# Altium footprint library HT3.96.PcbLib: 56 footprints (part 3 of 4)
Each footprint in its own frame and in the unit in brackets; x right, y up, seen from the top. Pads: shape width x height; smd on the part's side, far side on the other; paste and mask are expansions set on the pad; w line width, h text height; cw(c..) or ccw(c..) is an arc to the next point about the centre after c.
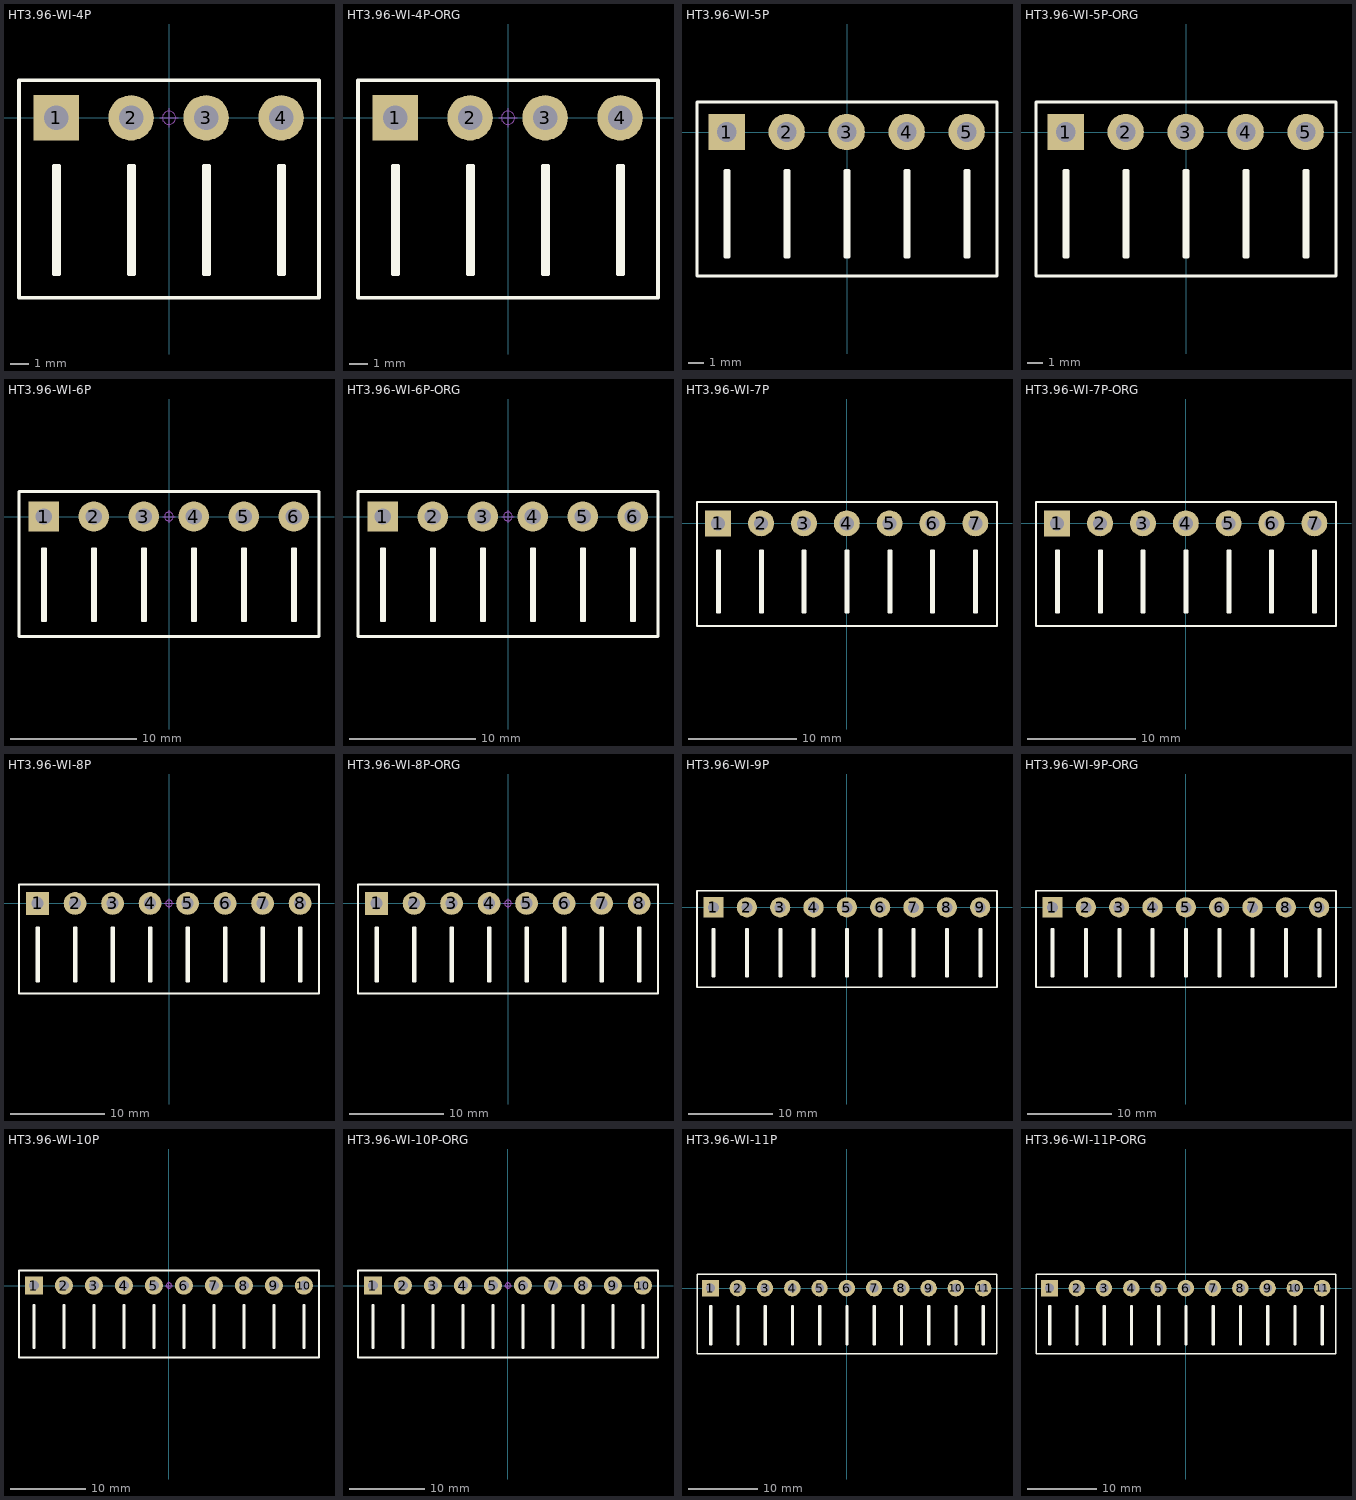
[diagram p2: the footprints below, top view; thin cyan lines are the x and y axes]

## HT3.96-WI-4P [mm] "HT3.96卧插端子"
pads (4):
  rect 2.4x2.4 hole 1.3: 1(-5.96,0)
  round 2.4 hole 1.3: 2(-2,0) 3(1.96,0) 4(5.92,0)
Top Overlay:
  lines w0.203: -5.94,-8.255 -5.94,-2.54 ; -1.98,-8.255 -1.98,-2.54 ; 1.98,-8.255 1.98,-2.54 ; 5.94,-8.255 5.94,-2.54 ; -7.92,-9.5 -3.96,-9.5 0,-9.5 3.96,-9.5 7.92,-9.5 7.92,1.98 3.96,1.98 0,1.98 -3.96,1.98 -7.92,1.98 -7.92,-9.5 ; -6.067,-8.255 -5.813,-8.255 -5.813,-2.54 -6.067,-2.54 -6.067,-8.255 ; -2.107,-8.255 -2.107,-2.54 -1.853,-2.54 -1.853,-8.255 -2.107,-8.255 ; 1.853,-8.255 1.853,-2.54 2.107,-2.54 2.107,-8.255 1.853,-8.255 ; 5.813,-8.255 5.813,-2.54 6.067,-2.54 6.067,-8.255 5.813,-8.255
Mechanical 15:
  circle w0.05: c0,0 r0.35
  lines w0.05: -0.5,0 0.5,0 ; 0,-0.5 0,0.5
3D body "HT3.96-WI-1P.STEP": height 7.45, standoff -3.2, extent 3.94,-9.5 7.94,0.5
3D body "HT3.96-WI-1P.STEP": height 7.45, standoff -3.2, extent -0.02,-9.5 3.98,0.5
3D body "HT3.96-WI-1P.STEP": height 7.45, standoff -3.2, extent -3.98,-9.5 0.02,0.5
3D body "HT3.96-WI-1P.STEP": height 7.45, standoff -3.2, extent -7.94,-9.5 -3.94,0.5

## HT3.96-WI-4P-ORG [mm] "HT3.96卧插端子"
pads (4):
  rect 2.4x2.4 hole 1.3: 1(-5.96,0)
  round 2.4 hole 1.3: 2(-2,0) 3(1.96,0) 4(5.92,0)
Top Overlay:
  lines w0.203: -5.94,-8.255 -5.94,-2.54 ; -1.98,-8.255 -1.98,-2.54 ; 1.98,-8.255 1.98,-2.54 ; 5.94,-8.255 5.94,-2.54 ; -7.92,-9.5 -7.92,1.98 -3.96,1.98 0,1.98 3.96,1.98 7.92,1.98 7.92,-9.5 3.96,-9.5 0,-9.5 -3.96,-9.5 -7.92,-9.5 ; -6.067,-8.255 -6.067,-2.54 -5.813,-2.54 -5.813,-8.255 -6.067,-8.255 ; -2.107,-8.255 -1.853,-8.255 -1.853,-2.54 -2.107,-2.54 -2.107,-8.255 ; 1.853,-8.255 2.107,-8.255 2.107,-2.54 1.853,-2.54 1.853,-8.255 ; 5.813,-8.255 6.067,-8.255 6.067,-2.54 5.813,-2.54 5.813,-8.255
Mechanical 15:
  circle w0.05: c0,0 r0.35
  lines w0.05: -0.5,0 0.5,0 ; 0,-0.5 0,0.5
3D body "HT3.96-WI-1P-ORG.STEP": height 7.45, standoff -3.2, extent -7.96,-9.5 -3.96,0.5
3D body "HT3.96-WI-1P-ORG.STEP": height 7.45, standoff -3.2, extent -4,-9.5 0,0.5
3D body "HT3.96-WI-1P-ORG.STEP": height 7.45, standoff -3.2, extent -0.04,-9.5 3.96,0.5
3D body "HT3.96-WI-1P-ORG.STEP": height 7.45, standoff -3.2, extent 3.92,-9.5 7.92,0.5

## HT3.96-WI-5P [mm] "HT3.96卧插端子"
pads (5):
  rect 2.4x2.4 hole 1.3: 1(-7.94,0)
  round 2.4 hole 1.3: 2(-3.98,0) 3(-0.02,0) 4(3.94,0) 5(7.9,0)
Top Overlay:
  lines w0.203: -7.92,-8.255 -7.92,-2.54 ; -3.96,-8.255 -3.96,-2.54 ; 0,-8.255 0,-2.54 ; 3.96,-8.255 3.96,-2.54 ; 7.92,-8.255 7.92,-2.54 ; -9.9,-9.5 -5.94,-9.5 -1.98,-9.5 1.98,-9.5 5.94,-9.5 9.9,-9.5 9.9,1.98 5.94,1.98 1.98,1.98 -1.98,1.98 -5.94,1.98 -9.9,1.98 -9.9,-9.5 ; -8.047,-8.255 -7.793,-8.255 -7.793,-2.54 -8.047,-2.54 -8.047,-8.255 ; -4.087,-8.255 -4.087,-2.54 -3.833,-2.54 -3.833,-8.255 -4.087,-8.255 ; -0.127,-8.255 -0.127,-2.54 0.127,-2.54 0.127,-8.255 -0.127,-8.255 ; 3.833,-8.255 3.833,-2.54 4.087,-2.54 4.087,-8.255 3.833,-8.255 ; 7.793,-8.255 7.793,-2.54 8.047,-2.54 8.047,-8.255 7.793,-8.255
Mechanical 15:
  circle w0.05: c0,0 r0.35
  lines w0.05: -0.5,0 0.5,0 ; 0,-0.5 0,0.5
3D body "HT3.96-WI-1P.STEP": height 7.45, standoff -3.2, extent 5.92,-9.5 9.92,0.5
3D body "HT3.96-WI-1P.STEP": height 7.45, standoff -3.2, extent 1.96,-9.5 5.96,0.5
3D body "HT3.96-WI-1P.STEP": height 7.45, standoff -3.2, extent -2,-9.5 2,0.5
3D body "HT3.96-WI-1P.STEP": height 7.45, standoff -3.2, extent -5.96,-9.5 -1.96,0.5
3D body "HT3.96-WI-1P.STEP": height 7.45, standoff -3.2, extent -9.92,-9.5 -5.92,0.5

## HT3.96-WI-5P-ORG [mm] "HT3.96卧插端子"
pads (5):
  rect 2.4x2.4 hole 1.3: 1(-7.94,0)
  round 2.4 hole 1.3: 2(-3.98,0) 3(-0.02,0) 4(3.94,0) 5(7.9,0)
Top Overlay:
  lines w0.203: -7.92,-8.255 -7.92,-2.54 ; -3.96,-8.255 -3.96,-2.54 ; 0,-8.255 0,-2.54 ; 3.96,-8.255 3.96,-2.54 ; 7.92,-8.255 7.92,-2.54 ; -9.9,-9.5 -9.9,1.98 -5.94,1.98 -1.98,1.98 1.98,1.98 5.94,1.98 9.9,1.98 9.9,-9.5 5.94,-9.5 1.98,-9.5 -1.98,-9.5 -5.94,-9.5 -9.9,-9.5 ; -8.047,-8.255 -8.047,-2.54 -7.793,-2.54 -7.793,-8.255 -8.047,-8.255 ; -4.087,-8.255 -3.833,-8.255 -3.833,-2.54 -4.087,-2.54 -4.087,-8.255 ; -0.127,-8.255 0.127,-8.255 0.127,-2.54 -0.127,-2.54 -0.127,-8.255 ; 3.833,-8.255 4.087,-8.255 4.087,-2.54 3.833,-2.54 3.833,-8.255 ; 7.793,-8.255 8.047,-8.255 8.047,-2.54 7.793,-2.54 7.793,-8.255
Mechanical 15:
  circle w0.05: c0,0 r0.35
  lines w0.05: -0.5,0 0.5,0 ; 0,-0.5 0,0.5
3D body "HT3.96-WI-1P-ORG.STEP": height 7.45, standoff -3.2, extent -9.96,-9.5 -5.96,0.5
3D body "HT3.96-WI-1P-ORG.STEP": height 7.45, standoff -3.2, extent -6,-9.5 -2,0.5
3D body "HT3.96-WI-1P-ORG.STEP": height 7.45, standoff -3.2, extent -2.04,-9.5 1.96,0.5
3D body "HT3.96-WI-1P-ORG.STEP": height 7.45, standoff -3.2, extent 1.92,-9.5 5.92,0.5
3D body "HT3.96-WI-1P-ORG.STEP": height 7.45, standoff -3.2, extent 5.88,-9.5 9.88,0.5

## HT3.96-WI-6P [mm] "HT3.96卧插端子"
pads (6):
  rect 2.4x2.4 hole 1.3: 1(-9.92,0)
  round 2.4 hole 1.3: 2(-5.96,0) 3(-2,0) 4(1.96,0) 5(5.92,0) 6(9.88,0)
Top Overlay:
  lines w0.203: -9.9,-8.255 -9.9,-2.54 ; -5.94,-8.255 -5.94,-2.54 ; -1.98,-8.255 -1.98,-2.54 ; 1.98,-8.255 1.98,-2.54 ; 5.94,-8.255 5.94,-2.54 ; 9.9,-8.255 9.9,-2.54 ; -11.88,-9.5 -7.92,-9.5 -3.96,-9.5 0,-9.5 3.96,-9.5 7.92,-9.5 11.88,-9.5 11.88,1.98 7.92,1.98 3.96,1.98 0,1.98 -3.96,1.98 -7.92,1.98 -11.88,1.98 -11.88,-9.5 ; -10.027,-8.255 -9.773,-8.255 -9.773,-2.54 -10.027,-2.54 -10.027,-8.255 ; -6.067,-8.255 -6.067,-2.54 -5.813,-2.54 -5.813,-8.255 -6.067,-8.255 ; -2.107,-8.255 -2.107,-2.54 -1.853,-2.54 -1.853,-8.255 -2.107,-8.255 ; 1.853,-8.255 1.853,-2.54 2.107,-2.54 2.107,-8.255 1.853,-8.255 ; 5.813,-8.255 5.813,-2.54 6.067,-2.54 6.067,-8.255 5.813,-8.255 ; 9.773,-8.255 9.773,-2.54 10.027,-2.54 10.027,-8.255 9.773,-8.255
Mechanical 15:
  circle w0.05: c0,0 r0.35
  lines w0.05: -0.5,0 0.5,0 ; 0,-0.5 0,0.5
3D body "HT3.96-WI-1P.STEP": height 7.45, standoff -3.2, extent 7.9,-9.5 11.9,0.5
3D body "HT3.96-WI-1P.STEP": height 7.45, standoff -3.2, extent 3.94,-9.5 7.94,0.5
3D body "HT3.96-WI-1P.STEP": height 7.45, standoff -3.2, extent -0.02,-9.5 3.98,0.5
3D body "HT3.96-WI-1P.STEP": height 7.45, standoff -3.2, extent -3.98,-9.5 0.02,0.5
3D body "HT3.96-WI-1P.STEP": height 7.45, standoff -3.2, extent -7.94,-9.5 -3.94,0.5
3D body "HT3.96-WI-1P.STEP": height 7.45, standoff -3.2, extent -11.9,-9.5 -7.9,0.5

## HT3.96-WI-6P-ORG [mm] "HT3.96卧插端子"
pads (6):
  rect 2.4x2.4 hole 1.3: 1(-9.92,0)
  round 2.4 hole 1.3: 2(-5.96,0) 3(-2,0) 4(1.96,0) 5(5.92,0) 6(9.88,0)
Top Overlay:
  lines w0.203: -9.9,-8.255 -9.9,-2.54 ; -5.94,-8.255 -5.94,-2.54 ; -1.98,-8.255 -1.98,-2.54 ; 1.98,-8.255 1.98,-2.54 ; 5.94,-8.255 5.94,-2.54 ; 9.9,-8.255 9.9,-2.54 ; -11.88,-9.5 -11.88,1.98 -7.92,1.98 -3.96,1.98 0,1.98 3.96,1.98 7.92,1.98 11.88,1.98 11.88,-9.5 7.92,-9.5 3.96,-9.5 0,-9.5 -3.96,-9.5 -7.92,-9.5 -11.88,-9.5 ; -10.027,-8.255 -10.027,-2.54 -9.773,-2.54 -9.773,-8.255 -10.027,-8.255 ; -6.067,-8.255 -5.813,-8.255 -5.813,-2.54 -6.067,-2.54 -6.067,-8.255 ; -2.107,-8.255 -1.853,-8.255 -1.853,-2.54 -2.107,-2.54 -2.107,-8.255 ; 1.853,-8.255 2.107,-8.255 2.107,-2.54 1.853,-2.54 1.853,-8.255 ; 5.813,-8.255 6.067,-8.255 6.067,-2.54 5.813,-2.54 5.813,-8.255 ; 9.773,-8.255 10.027,-8.255 10.027,-2.54 9.773,-2.54 9.773,-8.255
Mechanical 15:
  circle w0.05: c0,0 r0.35
  lines w0.05: -0.5,0 0.5,0 ; 0,-0.5 0,0.5
3D body "HT3.96-WI-1P-ORG.STEP": height 7.45, standoff -3.2, extent -11.92,-9.5 -7.92,0.5
3D body "HT3.96-WI-1P-ORG.STEP": height 7.45, standoff -3.2, extent -7.96,-9.5 -3.96,0.5
3D body "HT3.96-WI-1P-ORG.STEP": height 7.45, standoff -3.2, extent -4,-9.5 0,0.5
3D body "HT3.96-WI-1P-ORG.STEP": height 7.45, standoff -3.2, extent -0.04,-9.5 3.96,0.5
3D body "HT3.96-WI-1P-ORG.STEP": height 7.45, standoff -3.2, extent 3.92,-9.5 7.92,0.5
3D body "HT3.96-WI-1P-ORG.STEP": height 7.45, standoff -3.2, extent 7.88,-9.5 11.88,0.5

## HT3.96-WI-7P [mm] "HT3.96卧插端子"
pads (7):
  rect 2.4x2.4 hole 1.3: 1(-11.88,0)
  round 2.4 hole 1.3: 2(-7.92,0) 3(-3.96,0) 4(0,0) 5(3.96,0) 6(7.92,0) 7(11.88,0)
Top Overlay:
  lines w0.203: -11.86,-8.255 -11.86,-2.54 ; -7.9,-8.255 -7.9,-2.54 ; -3.94,-8.255 -3.94,-2.54 ; 0.02,-8.255 0.02,-2.54 ; 3.98,-8.255 3.98,-2.54 ; 7.94,-8.255 7.94,-2.54 ; 11.9,-8.255 11.9,-2.54 ; 13.88,-9.5 9.92,-9.5 5.96,-9.5 2,-9.5 -1.96,-9.5 -5.92,-9.5 -9.88,-9.5 -13.84,-9.5 -13.84,1.98 -9.88,1.98 -5.92,1.98 -1.96,1.98 2,1.98 5.96,1.98 9.92,1.98 13.88,1.98 13.88,-9.5 ; 13.88,-9.5 13.88,-9.5 ; -11.987,-8.255 -11.733,-8.255 -11.733,-2.54 -11.987,-2.54 -11.987,-8.255 ; -8.027,-8.255 -8.027,-2.54 -7.773,-2.54 -7.773,-8.255 -8.027,-8.255 ; -4.067,-8.255 -4.067,-2.54 -3.813,-2.54 -3.813,-8.255 -4.067,-8.255 ; -0.107,-8.255 -0.107,-2.54 0.147,-2.54 0.147,-8.255 -0.107,-8.255 ; 3.853,-8.255 3.853,-2.54 4.107,-2.54 4.107,-8.255 3.853,-8.255 ; 7.813,-8.255 7.813,-2.54 8.067,-2.54 8.067,-8.255 7.813,-8.255 ; 11.773,-8.255 11.773,-2.54 12.027,-2.54 12.027,-8.255 11.773,-8.255
Mechanical 15:
  circle w0.05: c0,0 r0.35
  lines w0.05: -0.5,0 0.5,0 ; 0,-0.5 0,0.5
3D body "HT3.96-WI-1P.STEP": height 7.45, standoff -3.2, extent 9.9,-9.5 13.9,0.5
3D body "HT3.96-WI-1P.STEP": height 7.45, standoff -3.2, extent 5.94,-9.5 9.94,0.5
3D body "HT3.96-WI-1P.STEP": height 7.45, standoff -3.2, extent 1.98,-9.5 5.98,0.5
3D body "HT3.96-WI-1P.STEP": height 7.45, standoff -3.2, extent -1.98,-9.5 2.02,0.5
3D body "HT3.96-WI-1P.STEP": height 7.45, standoff -3.2, extent -5.94,-9.5 -1.94,0.5
3D body "HT3.96-WI-1P.STEP": height 7.45, standoff -3.2, extent -9.9,-9.5 -5.9,0.5
3D body "HT3.96-WI-1P.STEP": height 7.45, standoff -3.2, extent -13.86,-9.5 -9.86,0.5

## HT3.96-WI-7P-ORG [mm] "HT3.96卧插端子"
pads (7):
  rect 2.4x2.4 hole 1.3: 1(-11.88,0)
  round 2.4 hole 1.3: 2(-7.92,0) 3(-3.96,0) 4(0,0) 5(3.96,0) 6(7.92,0) 7(11.88,0)
Top Overlay:
  lines w0.203: -11.86,-8.255 -11.86,-2.54 ; -7.9,-8.255 -7.9,-2.54 ; -3.94,-8.255 -3.94,-2.54 ; 0.02,-8.255 0.02,-2.54 ; 3.98,-8.255 3.98,-2.54 ; 7.94,-8.255 7.94,-2.54 ; 11.9,-8.255 11.9,-2.54 ; 13.88,-9.5 13.88,-9.5 ; 13.88,-9.5 13.88,1.98 9.92,1.98 5.96,1.98 2,1.98 -1.96,1.98 -5.92,1.98 -9.88,1.98 -13.84,1.98 -13.84,-9.5 -9.88,-9.5 -5.92,-9.5 -1.96,-9.5 2,-9.5 5.96,-9.5 9.92,-9.5 13.88,-9.5 ; -11.987,-8.255 -11.987,-2.54 -11.733,-2.54 -11.733,-8.255 -11.987,-8.255 ; -8.027,-8.255 -7.773,-8.255 -7.773,-2.54 -8.027,-2.54 -8.027,-8.255 ; -4.067,-8.255 -3.813,-8.255 -3.813,-2.54 -4.067,-2.54 -4.067,-8.255 ; -0.107,-8.255 0.147,-8.255 0.147,-2.54 -0.107,-2.54 -0.107,-8.255 ; 3.853,-8.255 4.107,-8.255 4.107,-2.54 3.853,-2.54 3.853,-8.255 ; 7.813,-8.255 8.067,-8.255 8.067,-2.54 7.813,-2.54 7.813,-8.255 ; 11.773,-8.255 12.027,-8.255 12.027,-2.54 11.773,-2.54 11.773,-8.255
Mechanical 15:
  circle w0.05: c0,0 r0.35
  lines w0.05: -0.5,0 0.5,0 ; 0,-0.5 0,0.5
3D body "HT3.96-WI-1P-ORG.STEP": height 7.45, standoff -3.2, extent -13.9,-9.5 -9.9,0.5
3D body "HT3.96-WI-1P-ORG.STEP": height 7.45, standoff -3.2, extent -9.94,-9.5 -5.94,0.5
3D body "HT3.96-WI-1P-ORG.STEP": height 7.45, standoff -3.2, extent -5.98,-9.5 -1.98,0.5
3D body "HT3.96-WI-1P-ORG.STEP": height 7.45, standoff -3.2, extent -2.02,-9.5 1.98,0.5
3D body "HT3.96-WI-1P-ORG.STEP": height 7.45, standoff -3.2, extent 1.94,-9.5 5.94,0.5
3D body "HT3.96-WI-1P-ORG.STEP": height 7.45, standoff -3.2, extent 5.9,-9.5 9.9,0.5
3D body "HT3.96-WI-1P-ORG.STEP": height 7.45, standoff -3.2, extent 9.86,-9.5 13.86,0.5

## HT3.96-WI-8P [mm] "HT3.96卧插端子"
pads (8):
  rect 2.4x2.4 hole 1.3: 1(-13.88,0)
  round 2.4 hole 1.3: 2(-9.92,0) 3(-5.96,0) 4(-2,0) 5(1.96,0) 6(5.92,0) 7(9.88,0) 8(13.84,0)
Top Overlay:
  lines w0.203: -13.86,-8.255 -13.86,-2.54 ; -9.9,-8.255 -9.9,-2.54 ; -5.94,-8.255 -5.94,-2.54 ; -1.98,-8.255 -1.98,-2.54 ; 1.98,-8.255 1.98,-2.54 ; 5.94,-8.255 5.94,-2.54 ; 9.9,-8.255 9.9,-2.54 ; 13.86,-8.255 13.86,-2.54 ; -15.84,-9.5 -15.84,1.98 -11.88,1.98 -7.92,1.98 -3.96,1.98 0,1.98 3.96,1.98 7.92,1.98 11.88,1.98 15.84,1.98 15.84,-9.5 11.88,-9.5 7.92,-9.5 3.96,-9.5 0,-9.5 -3.96,-9.5 -7.92,-9.5 -11.88,-9.5 -15.84,-9.5 ; -13.987,-8.255 -13.987,-2.54 -13.733,-2.54 -13.733,-8.255 -13.987,-8.255 ; -10.027,-8.255 -9.773,-8.255 -9.773,-2.54 -10.027,-2.54 -10.027,-8.255 ; -6.067,-8.255 -5.813,-8.255 -5.813,-2.54 -6.067,-2.54 -6.067,-8.255 ; -2.107,-8.255 -1.853,-8.255 -1.853,-2.54 -2.107,-2.54 -2.107,-8.255 ; 1.853,-8.255 2.107,-8.255 2.107,-2.54 1.853,-2.54 1.853,-8.255 ; 5.813,-8.255 6.067,-8.255 6.067,-2.54 5.813,-2.54 5.813,-8.255 ; 9.773,-8.255 10.027,-8.255 10.027,-2.54 9.773,-2.54 9.773,-8.255 ; 13.733,-8.255 13.987,-8.255 13.987,-2.54 13.733,-2.54 13.733,-8.255
Mechanical 15:
  circle w0.05: c0,0 r0.35
  lines w0.05: -0.5,0 0.5,0 ; 0,-0.5 0,0.5
3D body "HT3.96-WI-1P.STEP": height 7.45, standoff -3.2, extent -15.86,-9.5 -11.86,0.5
3D body "HT3.96-WI-1P.STEP": height 7.45, standoff -3.2, extent -11.9,-9.5 -7.9,0.5
3D body "HT3.96-WI-1P.STEP": height 7.45, standoff -3.2, extent -7.94,-9.5 -3.94,0.5
3D body "HT3.96-WI-1P.STEP": height 7.45, standoff -3.2, extent -3.98,-9.5 0.02,0.5
3D body "HT3.96-WI-1P.STEP": height 7.45, standoff -3.2, extent -0.02,-9.5 3.98,0.5
3D body "HT3.96-WI-1P.STEP": height 7.45, standoff -3.2, extent 3.94,-9.5 7.94,0.5
3D body "HT3.96-WI-1P.STEP": height 7.45, standoff -3.2, extent 7.9,-9.5 11.9,0.5
3D body "HT3.96-WI-1P.STEP": height 7.45, standoff -3.2, extent 11.86,-9.5 15.86,0.5

## HT3.96-WI-8P-ORG [mm] "HT3.96卧插端子"
pads (8):
  rect 2.4x2.4 hole 1.3: 1(-13.88,0)
  round 2.4 hole 1.3: 2(-9.92,0) 3(-5.96,0) 4(-2,0) 5(1.96,0) 6(5.92,0) 7(9.88,0) 8(13.84,0)
Top Overlay:
  lines w0.203: -13.86,-8.255 -13.86,-2.54 ; -9.9,-8.255 -9.9,-2.54 ; -5.94,-8.255 -5.94,-2.54 ; -1.98,-8.255 -1.98,-2.54 ; 1.98,-8.255 1.98,-2.54 ; 5.94,-8.255 5.94,-2.54 ; 9.9,-8.255 9.9,-2.54 ; 13.86,-8.255 13.86,-2.54 ; -15.84,-9.5 -11.88,-9.5 -7.92,-9.5 -3.96,-9.5 0,-9.5 3.96,-9.5 7.92,-9.5 11.88,-9.5 15.84,-9.5 15.84,1.98 11.88,1.98 7.92,1.98 3.96,1.98 0,1.98 -3.96,1.98 -7.92,1.98 -11.88,1.98 -15.84,1.98 -15.84,-9.5 ; -13.987,-8.255 -13.733,-8.255 -13.733,-2.54 -13.987,-2.54 -13.987,-8.255 ; -10.027,-8.255 -10.027,-2.54 -9.773,-2.54 -9.773,-8.255 -10.027,-8.255 ; -6.067,-8.255 -6.067,-2.54 -5.813,-2.54 -5.813,-8.255 -6.067,-8.255 ; -2.107,-8.255 -2.107,-2.54 -1.853,-2.54 -1.853,-8.255 -2.107,-8.255 ; 1.853,-8.255 1.853,-2.54 2.107,-2.54 2.107,-8.255 1.853,-8.255 ; 5.813,-8.255 5.813,-2.54 6.067,-2.54 6.067,-8.255 5.813,-8.255 ; 9.773,-8.255 9.773,-2.54 10.027,-2.54 10.027,-8.255 9.773,-8.255 ; 13.733,-8.255 13.733,-2.54 13.987,-2.54 13.987,-8.255 13.733,-8.255
Mechanical 15:
  circle w0.05: c0,0 r0.35
  lines w0.05: -0.5,0 0.5,0 ; 0,-0.5 0,0.5
3D body "HT3.96-WI-1P-ORG.STEP": height 7.45, standoff -3.2, extent 11.84,-9.5 15.84,0.5
3D body "HT3.96-WI-1P-ORG.STEP": height 7.45, standoff -3.2, extent 7.88,-9.5 11.88,0.5
3D body "HT3.96-WI-1P-ORG.STEP": height 7.45, standoff -3.2, extent 3.92,-9.5 7.92,0.5
3D body "HT3.96-WI-1P-ORG.STEP": height 7.45, standoff -3.2, extent -0.04,-9.5 3.96,0.5
3D body "HT3.96-WI-1P-ORG.STEP": height 7.45, standoff -3.2, extent -4,-9.5 0,0.5
3D body "HT3.96-WI-1P-ORG.STEP": height 7.45, standoff -3.2, extent -7.96,-9.5 -3.96,0.5
3D body "HT3.96-WI-1P-ORG.STEP": height 7.45, standoff -3.2, extent -11.92,-9.5 -7.92,0.5
3D body "HT3.96-WI-1P-ORG.STEP": height 7.45, standoff -3.2, extent -15.88,-9.5 -11.88,0.5

## HT3.96-WI-9P [mm] "HT3.96卧插端子"
pads (9):
  rect 2.4x2.4 hole 1.3: 1(-15.86,0)
  round 2.4 hole 1.3: 2(-11.9,0) 3(-7.94,0) 4(-3.98,0) 5(-0.02,0) 6(3.94,0) 7(7.9,0) 8(11.86,0) 9(15.82,0)
Top Overlay:
  lines w0.203: -15.84,-8.255 -15.84,-2.54 ; -11.88,-8.255 -11.88,-2.54 ; -7.92,-8.255 -7.92,-2.54 ; -3.96,-8.255 -3.96,-2.54 ; 0,-8.255 0,-2.54 ; 3.96,-8.255 3.96,-2.54 ; 7.92,-8.255 7.92,-2.54 ; 11.88,-8.255 11.88,-2.54 ; 15.84,-8.255 15.84,-2.54 ; -17.82,-9.5 -13.86,-9.5 -9.9,-9.5 -5.94,-9.5 -1.98,-9.5 1.98,-9.5 5.94,-9.5 9.9,-9.5 13.86,-9.5 17.82,-9.5 17.82,1.98 13.86,1.98 9.9,1.98 5.94,1.98 1.98,1.98 -1.98,1.98 -5.94,1.98 -9.9,1.98 -13.86,1.98 -17.82,1.98 -17.82,-9.5 ; -15.967,-8.255 -15.713,-8.255 -15.713,-2.54 -15.967,-2.54 -15.967,-8.255 ; -12.007,-8.255 -12.007,-2.54 -11.753,-2.54 -11.753,-8.255 -12.007,-8.255 ; -8.047,-8.255 -8.047,-2.54 -7.793,-2.54 -7.793,-8.255 -8.047,-8.255 ; -4.087,-8.255 -4.087,-2.54 -3.833,-2.54 -3.833,-8.255 -4.087,-8.255 ; -0.127,-8.255 -0.127,-2.54 0.127,-2.54 0.127,-8.255 -0.127,-8.255 ; 3.833,-8.255 3.833,-2.54 4.087,-2.54 4.087,-8.255 3.833,-8.255 ; 7.793,-8.255 7.793,-2.54 8.047,-2.54 8.047,-8.255 7.793,-8.255 ; 11.753,-8.255 11.753,-2.54 12.007,-2.54 12.007,-8.255 11.753,-8.255 ; 15.713,-8.255 15.713,-2.54 15.967,-2.54 15.967,-8.255 15.713,-8.255
Mechanical 15:
  circle w0.05: c0,0 r0.35
  lines w0.05: -0.5,0 0.5,0 ; 0,-0.5 0,0.5
3D body "HT3.96-WI-1P.STEP": height 7.45, standoff -3.2, extent 13.84,-9.5 17.84,0.5
3D body "HT3.96-WI-1P.STEP": height 7.45, standoff -3.2, extent 9.88,-9.5 13.88,0.5
3D body "HT3.96-WI-1P.STEP": height 7.45, standoff -3.2, extent 5.92,-9.5 9.92,0.5
3D body "HT3.96-WI-1P.STEP": height 7.45, standoff -3.2, extent 1.96,-9.5 5.96,0.5
3D body "HT3.96-WI-1P.STEP": height 7.45, standoff -3.2, extent -2,-9.5 2,0.5
3D body "HT3.96-WI-1P.STEP": height 7.45, standoff -3.2, extent -5.96,-9.5 -1.96,0.5
3D body "HT3.96-WI-1P.STEP": height 7.45, standoff -3.2, extent -9.92,-9.5 -5.92,0.5
3D body "HT3.96-WI-1P.STEP": height 7.45, standoff -3.2, extent -13.88,-9.5 -9.88,0.5
3D body "HT3.96-WI-1P.STEP": height 7.45, standoff -3.2, extent -17.84,-9.5 -13.84,0.5

## HT3.96-WI-9P-ORG [mm] "HT3.96卧插端子"
pads (9):
  rect 2.4x2.4 hole 1.3: 1(-15.86,0)
  round 2.4 hole 1.3: 2(-11.9,0) 3(-7.94,0) 4(-3.98,0) 5(-0.02,0) 6(3.94,0) 7(7.9,0) 8(11.86,0) 9(15.82,0)
Top Overlay:
  lines w0.203: -15.84,-8.255 -15.84,-2.54 ; -11.88,-8.255 -11.88,-2.54 ; -7.92,-8.255 -7.92,-2.54 ; -3.96,-8.255 -3.96,-2.54 ; 0,-8.255 0,-2.54 ; 3.96,-8.255 3.96,-2.54 ; 7.92,-8.255 7.92,-2.54 ; 11.88,-8.255 11.88,-2.54 ; 15.84,-8.255 15.84,-2.54 ; -17.82,-9.5 -17.82,1.98 -13.86,1.98 -9.9,1.98 -5.94,1.98 -1.98,1.98 1.98,1.98 5.94,1.98 9.9,1.98 13.86,1.98 17.82,1.98 17.82,-9.5 13.86,-9.5 9.9,-9.5 5.94,-9.5 1.98,-9.5 -1.98,-9.5 -5.94,-9.5 -9.9,-9.5 -13.86,-9.5 -17.82,-9.5 ; -15.967,-8.255 -15.967,-2.54 -15.713,-2.54 -15.713,-8.255 -15.967,-8.255 ; -12.007,-8.255 -11.753,-8.255 -11.753,-2.54 -12.007,-2.54 -12.007,-8.255 ; -8.047,-8.255 -7.793,-8.255 -7.793,-2.54 -8.047,-2.54 -8.047,-8.255 ; -4.087,-8.255 -3.833,-8.255 -3.833,-2.54 -4.087,-2.54 -4.087,-8.255 ; -0.127,-8.255 0.127,-8.255 0.127,-2.54 -0.127,-2.54 -0.127,-8.255 ; 3.833,-8.255 4.087,-8.255 4.087,-2.54 3.833,-2.54 3.833,-8.255 ; 7.793,-8.255 8.047,-8.255 8.047,-2.54 7.793,-2.54 7.793,-8.255 ; 11.753,-8.255 12.007,-8.255 12.007,-2.54 11.753,-2.54 11.753,-8.255 ; 15.713,-8.255 15.967,-8.255 15.967,-2.54 15.713,-2.54 15.713,-8.255
Mechanical 15:
  circle w0.05: c0,0 r0.35
  lines w0.05: -0.5,0 0.5,0 ; 0,-0.5 0,0.5
3D body "HT3.96-WI-1P-ORG.STEP": height 7.45, standoff -3.2, extent 13.82,-9.5 17.82,0.5
3D body "HT3.96-WI-1P-ORG.STEP": height 7.45, standoff -3.2, extent 9.86,-9.5 13.86,0.5
3D body "HT3.96-WI-1P-ORG.STEP": height 7.45, standoff -3.2, extent 5.9,-9.5 9.9,0.5
3D body "HT3.96-WI-1P-ORG.STEP": height 7.45, standoff -3.2, extent 1.94,-9.5 5.94,0.5
3D body "HT3.96-WI-1P-ORG.STEP": height 7.45, standoff -3.2, extent -2.02,-9.5 1.98,0.5
3D body "HT3.96-WI-1P-ORG.STEP": height 7.45, standoff -3.2, extent -5.98,-9.5 -1.98,0.5
3D body "HT3.96-WI-1P-ORG.STEP": height 7.45, standoff -3.2, extent -9.94,-9.5 -5.94,0.5
3D body "HT3.96-WI-1P-ORG.STEP": height 7.45, standoff -3.2, extent -13.9,-9.5 -9.9,0.5
3D body "HT3.96-WI-1P-ORG.STEP": height 7.45, standoff -3.2, extent -17.86,-9.5 -13.86,0.5

## HT3.96-WI-10P [mm] "HT3.96卧插端子"
pads (10):
  rect 2.4x2.4 hole 1.3: 1(-17.84,0)
  round 2.4 hole 1.3: 2(-13.88,0) 3(-9.92,0) 4(-5.96,0) 5(-2,0) 6(1.96,0) 7(5.92,0) 8(9.88,0) 9(13.84,0) 10(17.8,0)
Top Overlay:
  lines w0.203: -17.82,-8.255 -17.82,-2.54 ; -13.86,-8.255 -13.86,-2.54 ; -9.9,-8.255 -9.9,-2.54 ; -5.94,-8.255 -5.94,-2.54 ; -1.98,-8.255 -1.98,-2.54 ; 1.98,-8.255 1.98,-2.54 ; 5.94,-8.255 5.94,-2.54 ; 9.9,-8.255 9.9,-2.54 ; 13.86,-8.255 13.86,-2.54 ; 17.82,-8.255 17.82,-2.54 ; -19.8,-9.5 -19.8,1.98 -15.84,1.98 -11.88,1.98 -7.92,1.98 -3.96,1.98 0,1.98 3.96,1.98 7.92,1.98 11.88,1.98 15.84,1.98 19.8,1.98 19.8,-9.5 15.84,-9.5 11.88,-9.5 7.92,-9.5 3.96,-9.5 0,-9.5 -3.96,-9.5 -7.92,-9.5 -11.88,-9.5 -15.84,-9.5 -19.8,-9.5 ; -17.947,-8.255 -17.947,-2.54 -17.693,-2.54 -17.693,-8.255 -17.947,-8.255 ; -13.987,-8.255 -13.733,-8.255 -13.733,-2.54 -13.987,-2.54 -13.987,-8.255 ; -10.027,-8.255 -9.773,-8.255 -9.773,-2.54 -10.027,-2.54 -10.027,-8.255 ; -6.067,-8.255 -5.813,-8.255 -5.813,-2.54 -6.067,-2.54 -6.067,-8.255 ; -2.107,-8.255 -1.853,-8.255 -1.853,-2.54 -2.107,-2.54 -2.107,-8.255 ; 1.853,-8.255 2.107,-8.255 2.107,-2.54 1.853,-2.54 1.853,-8.255 ; 5.813,-8.255 6.067,-8.255 6.067,-2.54 5.813,-2.54 5.813,-8.255 ; 9.773,-8.255 10.027,-8.255 10.027,-2.54 9.773,-2.54 9.773,-8.255 ; 13.733,-8.255 13.987,-8.255 13.987,-2.54 13.733,-2.54 13.733,-8.255 ; 17.693,-8.255 17.693,-2.54 17.947,-2.54 17.947,-8.255 17.693,-8.255
Mechanical 15:
  circle w0.05: c0,0 r0.35
  lines w0.05: -0.5,0 0.5,0 ; 0,-0.5 0,0.5
3D body "HT3.96-WI-1P.STEP": height 7.45, standoff -3.2, extent -19.82,-9.5 -15.82,0.5
3D body "HT3.96-WI-1P.STEP": height 7.45, standoff -3.2, extent -15.86,-9.5 -11.86,0.5
3D body "HT3.96-WI-1P.STEP": height 7.45, standoff -3.2, extent 15.82,-9.5 19.82,0.5
3D body "HT3.96-WI-1P.STEP": height 7.45, standoff -3.2, extent -11.9,-9.5 -7.9,0.5
3D body "HT3.96-WI-1P.STEP": height 7.45, standoff -3.2, extent -7.94,-9.5 -3.94,0.5
3D body "HT3.96-WI-1P.STEP": height 7.45, standoff -3.2, extent -3.98,-9.5 0.02,0.5
3D body "HT3.96-WI-1P.STEP": height 7.45, standoff -3.2, extent -0.02,-9.5 3.98,0.5
3D body "HT3.96-WI-1P.STEP": height 7.45, standoff -3.2, extent 3.94,-9.5 7.94,0.5
3D body "HT3.96-WI-1P.STEP": height 7.45, standoff -3.2, extent 7.9,-9.5 11.9,0.5
3D body "HT3.96-WI-1P.STEP": height 7.45, standoff -3.2, extent 11.86,-9.5 15.86,0.5

## HT3.96-WI-10P-ORG [mm] "HT3.96卧插端子"
pads (10):
  rect 2.4x2.4 hole 1.3: 1(-17.84,0)
  round 2.4 hole 1.3: 2(-13.88,0) 3(-9.92,0) 4(-5.96,0) 5(-2,0) 6(1.96,0) 7(5.92,0) 8(9.88,0) 9(13.84,0) 10(17.8,0)
Top Overlay:
  lines w0.203: -17.82,-8.255 -17.82,-2.54 ; -13.86,-8.255 -13.86,-2.54 ; -9.9,-8.255 -9.9,-2.54 ; -5.94,-8.255 -5.94,-2.54 ; -1.98,-8.255 -1.98,-2.54 ; 1.98,-8.255 1.98,-2.54 ; 5.94,-8.255 5.94,-2.54 ; 9.9,-8.255 9.9,-2.54 ; 13.86,-8.255 13.86,-2.54 ; 17.82,-8.255 17.82,-2.54 ; -19.8,-9.5 -15.84,-9.5 -11.88,-9.5 -7.92,-9.5 -3.96,-9.5 0,-9.5 3.96,-9.5 7.92,-9.5 11.88,-9.5 15.84,-9.5 19.8,-9.5 19.8,1.98 15.84,1.98 11.88,1.98 7.92,1.98 3.96,1.98 0,1.98 -3.96,1.98 -7.92,1.98 -11.88,1.98 -15.84,1.98 -19.8,1.98 -19.8,-9.5 ; -17.947,-8.255 -17.693,-8.255 -17.693,-2.54 -17.947,-2.54 -17.947,-8.255 ; -13.987,-8.255 -13.987,-2.54 -13.733,-2.54 -13.733,-8.255 -13.987,-8.255 ; -10.027,-8.255 -10.027,-2.54 -9.773,-2.54 -9.773,-8.255 -10.027,-8.255 ; -6.067,-8.255 -6.067,-2.54 -5.813,-2.54 -5.813,-8.255 -6.067,-8.255 ; -2.107,-8.255 -2.107,-2.54 -1.853,-2.54 -1.853,-8.255 -2.107,-8.255 ; 1.853,-8.255 1.853,-2.54 2.107,-2.54 2.107,-8.255 1.853,-8.255 ; 5.813,-8.255 5.813,-2.54 6.067,-2.54 6.067,-8.255 5.813,-8.255 ; 9.773,-8.255 9.773,-2.54 10.027,-2.54 10.027,-8.255 9.773,-8.255 ; 13.733,-8.255 13.733,-2.54 13.987,-2.54 13.987,-8.255 13.733,-8.255 ; 17.693,-8.255 17.947,-8.255 17.947,-2.54 17.693,-2.54 17.693,-8.255
Mechanical 15:
  circle w0.05: c0,0 r0.35
  lines w0.05: -0.5,0 0.5,0 ; 0,-0.5 0,0.5
3D body "HT3.96-WI-1P-ORG.STEP": height 7.45, standoff -3.2, extent 15.8,-9.5 19.8,0.5
3D body "HT3.96-WI-1P-ORG.STEP": height 7.45, standoff -3.2, extent 11.84,-9.5 15.84,0.5
3D body "HT3.96-WI-1P-ORG.STEP": height 7.45, standoff -3.2, extent 7.88,-9.5 11.88,0.5
3D body "HT3.96-WI-1P-ORG.STEP": height 7.45, standoff -3.2, extent 3.92,-9.5 7.92,0.5
3D body "HT3.96-WI-1P-ORG.STEP": height 7.45, standoff -3.2, extent -0.04,-9.5 3.96,0.5
3D body "HT3.96-WI-1P-ORG.STEP": height 7.45, standoff -3.2, extent -4,-9.5 0,0.5
3D body "HT3.96-WI-1P-ORG.STEP": height 7.45, standoff -3.2, extent -7.96,-9.5 -3.96,0.5
3D body "HT3.96-WI-1P-ORG.STEP": height 7.45, standoff -3.2, extent -11.92,-9.5 -7.92,0.5
3D body "HT3.96-WI-1P-ORG.STEP": height 7.45, standoff -3.2, extent -15.88,-9.5 -11.88,0.5
3D body "HT3.96-WI-1P-ORG.STEP": height 7.45, standoff -3.2, extent -19.84,-9.5 -15.84,0.5

## HT3.96-WI-11P [mm] "HT3.96卧插端子"
pads (11):
  rect 2.4x2.4 hole 1.3: 1(-19.82,0)
  round 2.4 hole 1.3: 2(-15.86,0) 3(-11.9,0) 4(-7.94,0) 5(-3.98,0) 6(-0.02,0) 7(3.94,0) 8(7.9,0) 9(11.86,0) 10(15.82,0) 11(19.8,0)
Top Overlay:
  lines w0.203: -19.8,-8.255 -19.8,-2.54 ; -15.84,-8.255 -15.84,-2.54 ; -11.88,-8.255 -11.88,-2.54 ; -7.92,-8.255 -7.92,-2.54 ; -3.96,-8.255 -3.96,-2.54 ; 0,-8.255 0,-2.54 ; 3.96,-8.255 3.96,-2.54 ; 7.92,-8.255 7.92,-2.54 ; 11.88,-8.255 11.88,-2.54 ; 15.84,-8.255 15.84,-2.54 ; 17.82,-9.5 13.86,-9.5 9.9,-9.5 5.94,-9.5 1.98,-9.5 -1.98,-9.5 -5.94,-9.5 -9.9,-9.5 -13.86,-9.5 -17.82,-9.5 -21.78,-9.5 -21.78,1.98 -17.82,1.98 -13.86,1.98 -9.9,1.98 -5.94,1.98 -1.98,1.98 1.98,1.98 5.94,1.98 9.9,1.98 13.86,1.98 17.82,1.98 ; 17.84,-9.5 21.8,-9.5 21.8,1.98 17.84,1.98 ; 19.82,-8.255 19.82,-2.54 ; -19.927,-8.255 -19.927,-2.54 -19.673,-2.54 -19.673,-8.255 -19.927,-8.255 ; -15.967,-8.255 -15.713,-8.255 -15.713,-2.54 -15.967,-2.54 -15.967,-8.255 ; -12.007,-8.255 -11.753,-8.255 -11.753,-2.54 -12.007,-2.54 -12.007,-8.255 ; -8.047,-8.255 -7.793,-8.255 -7.793,-2.54 -8.047,-2.54 -8.047,-8.255 ; -4.087,-8.255 -3.833,-8.255 -3.833,-2.54 -4.087,-2.54 -4.087,-8.255 ; -0.127,-8.255 0.127,-8.255 0.127,-2.54 -0.127,-2.54 -0.127,-8.255 ; 3.833,-8.255 4.087,-8.255 4.087,-2.54 3.833,-2.54 3.833,-8.255 ; 7.793,-8.255 8.047,-8.255 8.047,-2.54 7.793,-2.54 7.793,-8.255 ; 11.753,-8.255 12.007,-8.255 12.007,-2.54 11.753,-2.54 11.753,-8.255 ; 15.713,-8.255 15.713,-2.54 15.967,-2.54 15.967,-8.255 15.713,-8.255 ; 19.693,-8.255 19.947,-8.255 19.947,-2.54 19.693,-2.54 19.693,-8.255
Mechanical 15:
  circle w0.05: c0,0 r0.35
  lines w0.05: -0.5,0 0.5,0 ; 0,-0.5 0,0.5
3D body "HT3.96-WI-1P.STEP": height 7.45, standoff -3.2, extent -21.8,-9.5 -17.8,0.5
3D body "HT3.96-WI-1P.STEP": height 7.45, standoff -3.2, extent -17.84,-9.5 -13.84,0.5
3D body "HT3.96-WI-1P.STEP": height 7.45, standoff -3.2, extent 13.84,-9.5 17.84,0.5
3D body "HT3.96-WI-1P.STEP": height 7.45, standoff -3.2, extent -13.88,-9.5 -9.88,0.5
3D body "HT3.96-WI-1P.STEP": height 7.45, standoff -3.2, extent -9.92,-9.5 -5.92,0.5
3D body "HT3.96-WI-1P.STEP": height 7.45, standoff -3.2, extent -5.96,-9.5 -1.96,0.5
3D body "HT3.96-WI-1P.STEP": height 7.45, standoff -3.2, extent -2,-9.5 2,0.5
3D body "HT3.96-WI-1P.STEP": height 7.45, standoff -3.2, extent 1.96,-9.5 5.96,0.5
3D body "HT3.96-WI-1P.STEP": height 7.45, standoff -3.2, extent 5.92,-9.5 9.92,0.5
3D body "HT3.96-WI-1P.STEP": height 7.45, standoff -3.2, extent 9.88,-9.5 13.88,0.5
3D body "HT3.96-WI-1P.STEP": height 7.45, standoff -3.2, extent 17.82,-9.5 21.82,0.5

## HT3.96-WI-11P-ORG [mm] "HT3.96卧插端子"
pads (11):
  rect 2.4x2.4 hole 1.3: 1(-19.82,0)
  round 2.4 hole 1.3: 2(-15.86,0) 3(-11.9,0) 4(-7.94,0) 5(-3.98,0) 6(-0.02,0) 7(3.94,0) 8(7.9,0) 9(11.86,0) 10(15.82,0) 11(19.8,0)
Top Overlay:
  lines w0.203: -19.8,-8.255 -19.8,-2.54 ; -15.84,-8.255 -15.84,-2.54 ; -11.88,-8.255 -11.88,-2.54 ; -7.92,-8.255 -7.92,-2.54 ; -3.96,-8.255 -3.96,-2.54 ; 0,-8.255 0,-2.54 ; 3.96,-8.255 3.96,-2.54 ; 7.92,-8.255 7.92,-2.54 ; 11.88,-8.255 11.88,-2.54 ; 15.84,-8.255 15.84,-2.54 ; 17.82,-9.5 13.86,-9.5 9.9,-9.5 5.94,-9.5 1.98,-9.5 -1.98,-9.5 -5.94,-9.5 -9.9,-9.5 -13.86,-9.5 -17.82,-9.5 -21.78,-9.5 -21.78,1.98 -17.82,1.98 -13.86,1.98 -9.9,1.98 -5.94,1.98 -1.98,1.98 1.98,1.98 5.94,1.98 9.9,1.98 13.86,1.98 17.82,1.98 ; 17.84,-9.5 21.8,-9.5 21.8,1.98 17.84,1.98 ; 19.82,-8.255 19.82,-2.54 ; -19.927,-8.255 -19.673,-8.255 -19.673,-2.54 -19.927,-2.54 -19.927,-8.255 ; -15.967,-8.255 -15.967,-2.54 -15.713,-2.54 -15.713,-8.255 -15.967,-8.255 ; -12.007,-8.255 -12.007,-2.54 -11.753,-2.54 -11.753,-8.255 -12.007,-8.255 ; -8.047,-8.255 -8.047,-2.54 -7.793,-2.54 -7.793,-8.255 -8.047,-8.255 ; -4.087,-8.255 -4.087,-2.54 -3.833,-2.54 -3.833,-8.255 -4.087,-8.255 ; -0.127,-8.255 -0.127,-2.54 0.127,-2.54 0.127,-8.255 -0.127,-8.255 ; 3.833,-8.255 3.833,-2.54 4.087,-2.54 4.087,-8.255 3.833,-8.255 ; 7.793,-8.255 7.793,-2.54 8.047,-2.54 8.047,-8.255 7.793,-8.255 ; 11.753,-8.255 11.753,-2.54 12.007,-2.54 12.007,-8.255 11.753,-8.255 ; 15.713,-8.255 15.967,-8.255 15.967,-2.54 15.713,-2.54 15.713,-8.255 ; 19.693,-8.255 19.693,-2.54 19.947,-2.54 19.947,-8.255 19.693,-8.255
Mechanical 15:
  circle w0.05: c0,0 r0.35
  lines w0.05: -0.5,0 0.5,0 ; 0,-0.5 0,0.5
3D body "HT3.96-WI-1P-ORG.STEP": height 7.45, standoff -3.2, extent 17.78,-9.5 21.78,0.5
3D body "HT3.96-WI-1P-ORG.STEP": height 7.45, standoff -3.2, extent 13.82,-9.5 17.82,0.5
3D body "HT3.96-WI-1P-ORG.STEP": height 7.45, standoff -3.2, extent 9.86,-9.5 13.86,0.5
3D body "HT3.96-WI-1P-ORG.STEP": height 7.45, standoff -3.2, extent 5.9,-9.5 9.9,0.5
3D body "HT3.96-WI-1P-ORG.STEP": height 7.45, standoff -3.2, extent 1.94,-9.5 5.94,0.5
3D body "HT3.96-WI-1P-ORG.STEP": height 7.45, standoff -3.2, extent -2.02,-9.5 1.98,0.5
3D body "HT3.96-WI-1P-ORG.STEP": height 7.45, standoff -3.2, extent -5.98,-9.5 -1.98,0.5
3D body "HT3.96-WI-1P-ORG.STEP": height 7.45, standoff -3.2, extent -9.94,-9.5 -5.94,0.5
3D body "HT3.96-WI-1P-ORG.STEP": height 7.45, standoff -3.2, extent -13.9,-9.5 -9.9,0.5
3D body "HT3.96-WI-1P-ORG.STEP": height 7.45, standoff -3.2, extent -17.86,-9.5 -13.86,0.5
3D body "HT3.96-WI-1P-ORG.STEP": height 7.45, standoff -3.2, extent -21.82,-9.5 -17.82,0.5